# EAGLE library part ZM1000 (library Nixie Tube)
Indicator Tube (numeral height 14mm, no filter, side view, long-life typ)
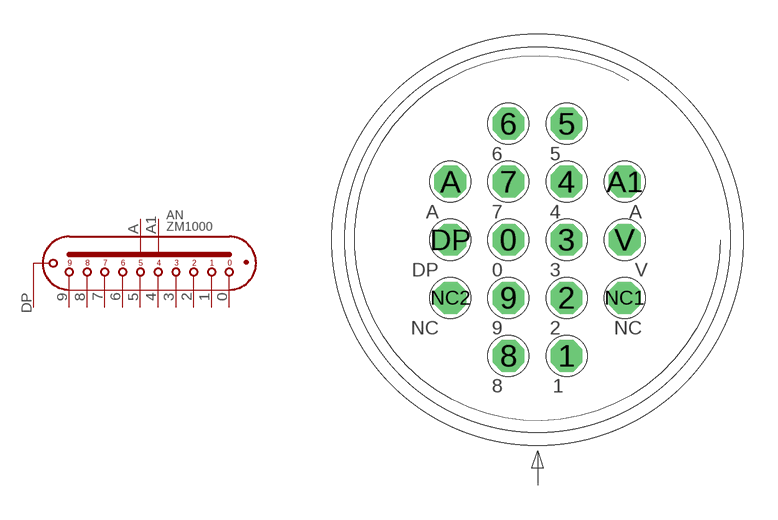
[diagram p1: symbol with the pads of ZM1000; footprint ZM1000]

Designator prefix AN

## ZM1000  [ZM1000]
0  0  pas
1  1  pas
2  2  pas
3  3  pas
4  4  pas
5  5  pas
6  6  pas
7  7  pas
8  8  pas
9  9  pas
A  A1  pas
A1  A2  pas
DP  DPL  pas

## Footprint ZM1000 (pad centres in mm)
Direct print
drill 0.813 pad 1.397 octagon: 0 -1.27,0; 1 1.27,-5.08; 2 1.27,-2.54; 3 1.27,0; 4 1.27,2.54; 5 1.27,5.08; 6 -1.27,5.08; 7 -1.27,2.54; 8 -1.27,-5.08; 9 -1.27,-2.54; A -3.81,2.54; A1 3.81,2.54; DP -3.81,0; NC1 3.81,-2.54; NC2 -3.81,-2.54; V 3.81,0